# Altium schematic symbol library GRM0335C1H2R4BA01D.SchLib: 1 symbol
Pins are listed as number, name and electrical type; pins without a type are passive.

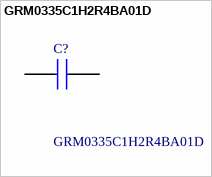
[diagram p0: symbol GRM0335C1H2R4BA01D]

## GRM0335C1H2R4BA01D
designator C?
Multilayer Ceramic Capacitors MLCC - SMD/SMT 0201 2.4pF 50volts C0G +/-0.1pF; Manufacturer_Name: Murata Electronics; Geometry.Height: 0.33mm; Manufacturer_Part_Number: GRM0335C1H2R4BA01D; Mouser Part Number: 81-GRM0335C1H2R4BA1D; Mouser Price/Stock: https://www.mouser.co.uk/ProductDetail/Murata-Electronics/GRM0335C1H2R4BA01D?qs=7vGxPDjevFPVkMUaTcTZcw%3D%3D; Arrow Part Number: GRM0335C1H2R4BA01D; Arrow Price/Stock: https://www.arrow.com/en/products/grm0335c1h2r4ba01d/murata-manufacturing; Datasheet Link: https://search.murata.co.jp/Ceramy/image/img/A01X/G101/ENG/GRM0335C1H2R4BA01-01A.pdf
footprint GRM033D70J224ME01D
pins: 1, 2